# EAGLE library part DRV8801 (library perspection)
IC MOTOR DRIVER PAR 16HTSSOP Digi-key Page <http://www.digikey.com/product-detail/en/DRV8801PWPR/296-25378-1-ND/2183149>
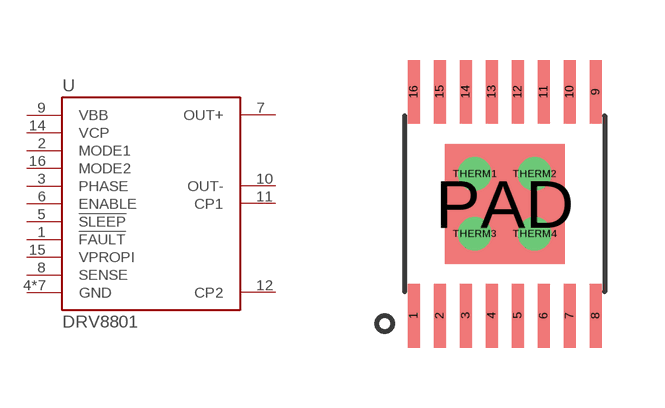
[diagram p7: symbol with the pads of TI-HTSSOP-16; footprint TI-HTSSOP-16]

Designator prefix U

## DRV8801PWPR (DIST_NAME: Digi-Key; DIST_PN: 296-25378-1-ND; MFG_NAME: Texas Instruments; MFG_PN: DRV8801PWPR)  [TI-HTSSOP-16]
1  !FAULT
2  MODE1
3  PHASE
4  GND
5  !SLEEP
6  ENABLE
7  OUT+
8  SENSE
9  VBB
10  OUT-
11  CP1
12  CP2
13  GND
14  VCP
15  VPROPI
16  MODE2
PAD  GND
THERM1  GND
THERM2  GND
THERM3  GND
THERM4  GND

## Footprint TI-HTSSOP-16 (pad centres in mm)
smd 0.3 x 1.6: 1 -2.275,-2.8; 2 -1.625,-2.8; 3 -0.975,-2.8; 4 -0.325,-2.8; 5 0.325,-2.8; 6 0.975,-2.8; 7 1.625,-2.8; 8 2.275,-2.8; 9 2.275,2.8; 10 1.625,2.8; 11 0.975,2.8; 12 0.325,2.8; 13 -0.325,2.8; 14 -0.975,2.8; 15 -1.625,2.8; 16 -2.275,2.8
smd 3 x 3: PAD 0,0
drill 0.33: THERM1 -0.75,0.75; THERM2 0.75,0.75; THERM3 -0.75,-0.75; THERM4 0.75,-0.75